# EAGLE library part DRV8332 (library kiks-ic)
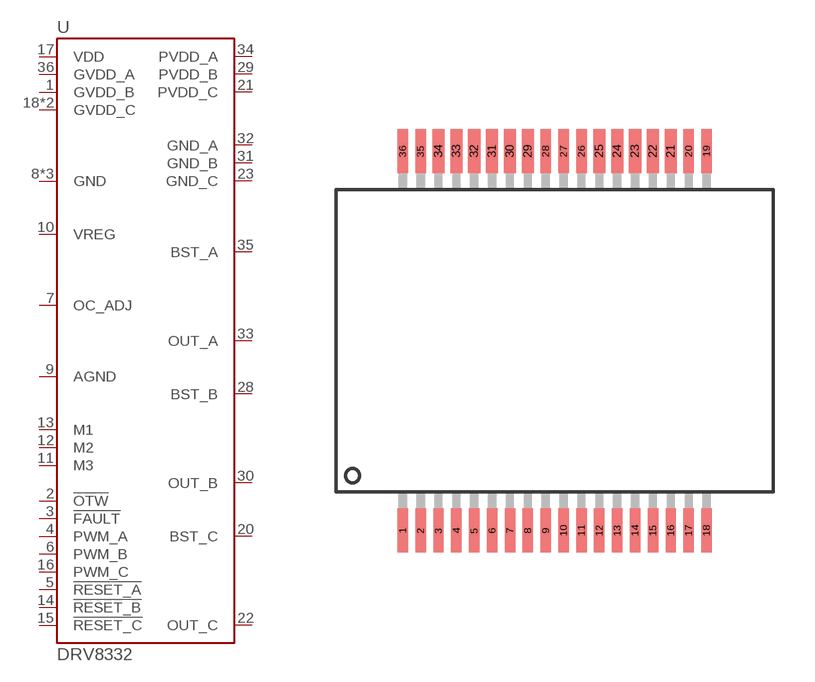
[diagram p0: symbol with the pads of HSSOP36; footprint HSSOP36]

Designator prefix U

## DRV8332  [HSSOP36]
1  GVDD_B  in
2  !OTW  oc
3  !FAULT  oc
4  PWM_A  in
5  !RESET_A  in
6  PWM_B  in
7  OC_ADJ
8  GND  in
9  AGND  in
10  VREG  out
11  M3  in
12  M2  in
13  M1  in
14  !RESET_B  in
15  !RESET_C  in
16  PWM_C  in
17  VDD  in
18  GVDD_C  in
19  GVDD_C  in
20  BST_C
21  PVDD_C  in
22  OUT_C  out
23  GND_C  in
24  GND  in
25  GND  in
28  BST_B
29  PVDD_B  in
30  OUT_B  out
31  GND_B  in
32  GND_A  in
33  OUT_A  out
34  PVDD_A  in
35  BST_A
36  GVDD_A  in

## Footprint HSSOP36 (pad centres in mm)
smd 0.381 x 1.6: 1 -5.525,-6.9; 2 -4.875,-6.9; 3 -4.225,-6.9; 4 -3.575,-6.9; 5 -2.925,-6.9; 6 -2.275,-6.9; 7 -1.625,-6.9; 8 -0.975,-6.9; 9 -0.325,-6.9; 10 0.325,-6.9; 11 0.975,-6.9; 12 1.625,-6.9; 13 2.275,-6.9; 14 2.925,-6.9; 15 3.575,-6.9; 16 4.225,-6.9; 17 4.875,-6.9; 18 5.525,-6.9; 19 5.525,6.9; 20 4.875,6.9; 26 0.975,6.9; 27 0.325,6.9; 28 -0.325,6.9; 35 -4.875,6.9; 36 -5.525,6.9
smd 0.44 x 1.6: 21 4.225,6.9; 22 3.575,6.9; 23 2.925,6.9; 24 2.275,6.9; 25 1.625,6.9; 29 -0.975,6.9; 30 -1.625,6.9; 31 -2.275,6.9; 32 -2.925,6.9; 33 -3.575,6.9; 34 -4.225,6.9